# EAGLE library part TM4C1230C3PM (library TM4)
tm4c1230c3pm_ra0_lqfp_v0p1 edit this description Auto generated by make-symbol-device-package-bsdl.ulp Rev. 43 Source: tm4c1230c3pm_ra0_lqfp_v0p1.bsdl
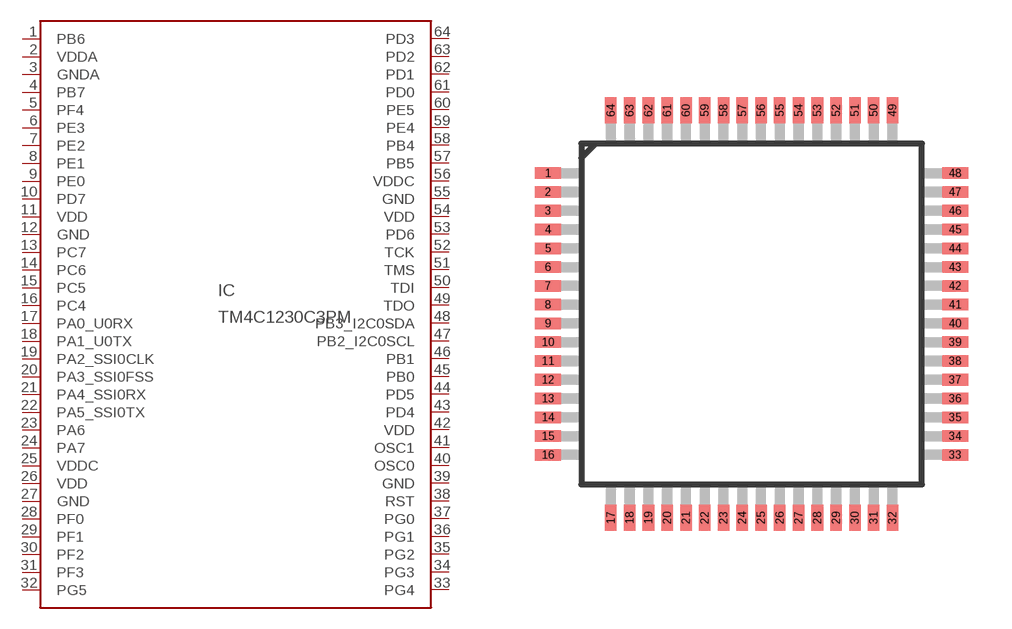
[diagram p0: symbol with the pads of LQFP_64; footprint LQFP_64]

Designator prefix IC

## TM4C1230C3PM  [LQFP_64]
1  PB6
2  VDDA  pwr
3  GNDA  pwr
4  PB7
5  PF4
6  PE3
7  PE2
8  PE1
9  PE0
10  PD7
11  VDD  pwr
12  GND  pwr
13  PC7
14  PC6
15  PC5
16  PC4
17  PA0_U0RX
18  PA1_U0TX
19  PA2_SSI0CLK
20  PA3_SSI0FSS
21  PA4_SSI0RX
22  PA5_SSI0TX
23  PA6
24  PA7
25  VDDC  pwr
26  VDD  pwr
27  GND  pwr
28  PF0
29  PF1
30  PF2
31  PF3
32  PG5
33  PG4
34  PG3
35  PG2
36  PG1
37  PG0
38  RST  pas
39  GND  pwr
40  OSC0  pas
41  OSC1  pas
42  VDD  pwr
43  PD4
44  PD5
45  PB0
46  PB1
47  PB2_I2C0SCL
48  PB3_I2C0SDA
49  TDO  out
50  TDI  in
51  TMS  in
52  TCK  in
53  PD6
54  VDD  pwr
55  GND  pwr
56  VDDC  pwr
57  PB5
58  PB4
59  PE4
60  PE5
61  PD0
62  PD1
63  PD2
64  PD3

## Footprint LQFP_64 (pad centres in mm)
LQFP_64 Auto generated by make-symbol-device-package-bsdl.ulp Rev. 43
smd 0.9 x 0.4: 1 -7.05,4.875; 2 -7.05,4.225; 3 -7.05,3.575; 4 -7.05,2.925; 5 -7.05,2.275; 6 -7.05,1.625; 7 -7.05,0.975; 8 -7.05,0.325; 9 -7.05,-0.325; 10 -7.05,-0.975; 11 -7.05,-1.625; 12 -7.05,-2.275; 13 -7.05,-2.925; 14 -7.05,-3.575; 15 -7.05,-4.225; 16 -7.05,-4.875; 33 7.05,-4.875; 34 7.05,-4.225; 35 7.05,-3.575; 36 7.05,-2.925; 37 7.05,-2.275; 38 7.05,-1.625; 39 7.05,-0.975; 40 7.05,-0.325; 41 7.05,0.325; 42 7.05,0.975; 43 7.05,1.625; 44 7.05,2.275; 45 7.05,2.925; 46 7.05,3.575; 47 7.05,4.225; 48 7.05,4.875
smd 0.4 x 0.9: 17 -4.875,-7.05; 18 -4.225,-7.05; 19 -3.575,-7.05; 20 -2.925,-7.05; 21 -2.275,-7.05; 22 -1.625,-7.05; 23 -0.975,-7.05; 24 -0.325,-7.05; 25 0.325,-7.05; 26 0.975,-7.05; 27 1.625,-7.05; 28 2.275,-7.05; 29 2.925,-7.05; 30 3.575,-7.05; 31 4.225,-7.05; 32 4.875,-7.05; 49 4.875,7.05; 50 4.225,7.05; 51 3.575,7.05; 52 2.925,7.05; 53 2.275,7.05; 54 1.625,7.05; 55 0.975,7.05; 56 0.325,7.05; 57 -0.325,7.05; 58 -0.975,7.05; 59 -1.625,7.05; 60 -2.275,7.05; 61 -2.925,7.05; 62 -3.575,7.05; 63 -4.225,7.05; 64 -4.875,7.05